# EAGLE library part SPRING2X3 (library molex-spring)
Molex COMPRESSION CONN ASSY LCP 6CKT Digikey: WM11201CT-ND http://www.molex.com/pdm_docs/sd/787326021_sd.pdf
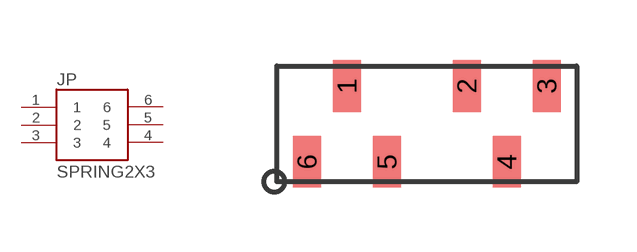
[diagram p2: symbol with the pads of 2X3_PCB; footprint 2X3_PCB]

Designator prefix JP

## SPRING2X3  [2X3_PCB]
1  1
2  2
3  3
4  4
5  5
6  6

## Footprint 2X3_PCB (pad centres in mm)
smd 0.7 x 1.3: 1 -2,1.13; 2 1,1.13; 3 3,1.13; 4 2,-0.77; 5 -1,-0.77; 6 -3,-0.77